# EAGLE library part RSPARTR1 (library radiotubes)
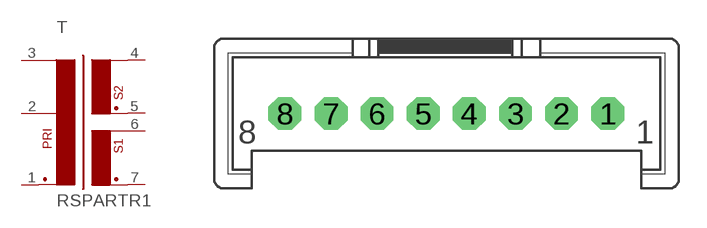
[diagram p110: symbol with the pads of MSF8; footprint MSF8]

Designator prefix T

## RSPARTR1  [MSF8]
1  0  pas
2  120  pas
3  220  pas
4  GH  pas
5  GH'  pas
6  H  pas
7  H'  pas

## Footprint MSF8 (pad centres in mm)
drill 1.016 pad 1.778 octagon: 1 8.763,0; 2 6.248,0; 3 3.759,0; 4 1.245,0; 5 -1.245,0; 6 -3.759,0; 7 -6.248,0; 8 -8.763,0